# EAGLE library part M93C46 (library SparkFun-Retired)
Datasheet SparkFun Products () () 1kbit SPI EEPROM IC-09397 -- Dead prototype
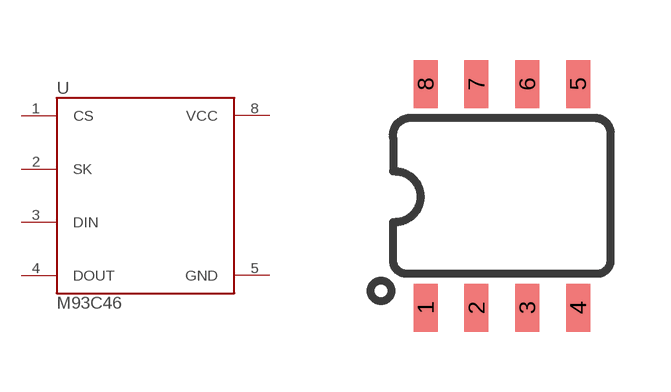
[diagram p31: symbol with the pads of SO08; footprint SO08]

Designator prefix -

## M93C46  [SO08]
1  CS
2  SK
3  DIN
4  DOUT
5  GND
8  VCC

## Footprint SO08 (pad centres in mm)
SOIC, 0.15 inch width
smd 0.6 x 1.2: 1 -1.905,-2.8; 2 -0.635,-2.8; 3 0.635,-2.8; 4 1.905,-2.8; 5 1.905,2.8; 6 0.635,2.8; 7 -0.635,2.8; 8 -1.905,2.8